# EAGLE library part ATPA3011M (library aquest)
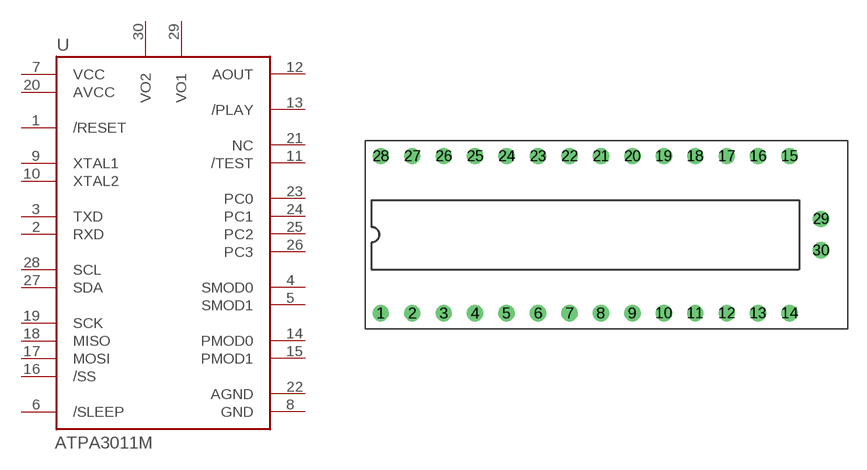
[diagram p6: symbol with the pads of ATPA30XXM; footprint ATPA30XXM]

Designator prefix -

## ATPA3011M  [ATPA30XXM]
1  /RESET  in
2  RXD  in
3  TXD  out
4  SMOD0  in
5  SMOD1  in
6  /SLEEP  in
7  VCC  pwr
8  GND  pwr
9  XTAL1  nc
10  XTAL2  nc
11  /TEST  in
12  AOUT  out
13  /PLAY  out
14  PMOD0  in
15  PMOD1  in
16  /SS  in
17  MOSI  in
18  MISO  out
19  SCK  in
20  AVCC  pwr
21  NC  nc
22  AGND  pwr
23  PC0  in
24  PC1  in
25  PC2  in
26  PC3  in
27  SDA
28  SCL  in
29  VO1  out
30  VO2  out

## Footprint ATPA30XXM (pad centres in mm)
drill 0.813: 1 -16.51,-6.35; 2 -13.97,-6.35; 3 -11.43,-6.35; 4 -8.89,-6.35; 5 -6.35,-6.35; 6 -3.81,-6.35; 7 -1.27,-6.35; 8 1.27,-6.35; 9 3.81,-6.35; 10 6.35,-6.35; 11 8.89,-6.35; 12 11.43,-6.35; 13 13.97,-6.35; 14 16.51,-6.35; 15 16.51,6.35; 16 13.97,6.35; 17 11.43,6.35; 18 8.89,6.35; 19 6.35,6.35; 20 3.81,6.35; 21 1.27,6.35; 22 -1.27,6.35; 23 -3.81,6.35; 24 -6.35,6.35; 25 -8.89,6.35; 26 -11.43,6.35; 27 -13.97,6.35; 28 -16.51,6.35; 29 19.05,1.27; 30 19.05,-1.27